# EAGLE library part MIC4427 (library PMIC)
IC DRIVER MOSFET 1.5A DUAL NONINVERTING Datasheet <http://www.microchip.com/mymicrochip/filehandler.aspx?ddocname=en579187>
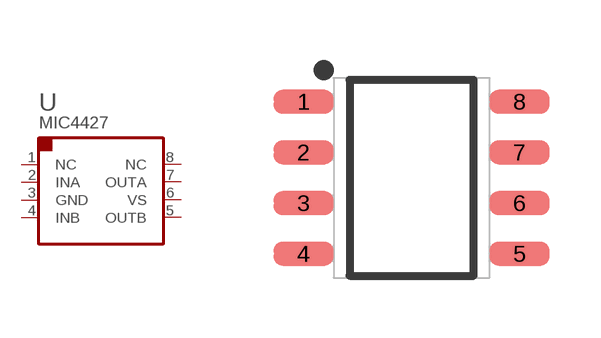
[diagram p4: symbol with the pads of SOIC-8; footprint SOIC-8]

Designator prefix U

## MIC4427YM (PARTNO: 01-100215-00)  [SOIC-8]
1  NC  nc
2  INA  in
3  GND  pwr
4  INB  in
5  OUTB  out
6  VS  pwr
7  OUTA  out
8  NC  nc

## Footprint SOIC-8 (pad centres in mm)
SOIC, 8-Leads, Body 4.90x3.90mm, Pitch 1.27mm, IPC Medium Density
smd 1.5 x 0.6: 1 -2.7,1.905; 2 -2.7,0.635; 3 -2.7,-0.635; 4 -2.7,-1.905; 5 2.7,-1.905; 6 2.7,-0.635; 7 2.7,0.635; 8 2.7,1.905